# Altium footprint library diploma.PcbLib: 27 footprints (part 2 of 2)
Each footprint in its own frame and in the unit in brackets; x right, y up, seen from the top. Pads: shape width x height; smd on the part's side, far side on the other; paste and mask are expansions set on the pad; w line width, h text height; cw(c..) or ccw(c..) is an arc to the next point about the centre after c.
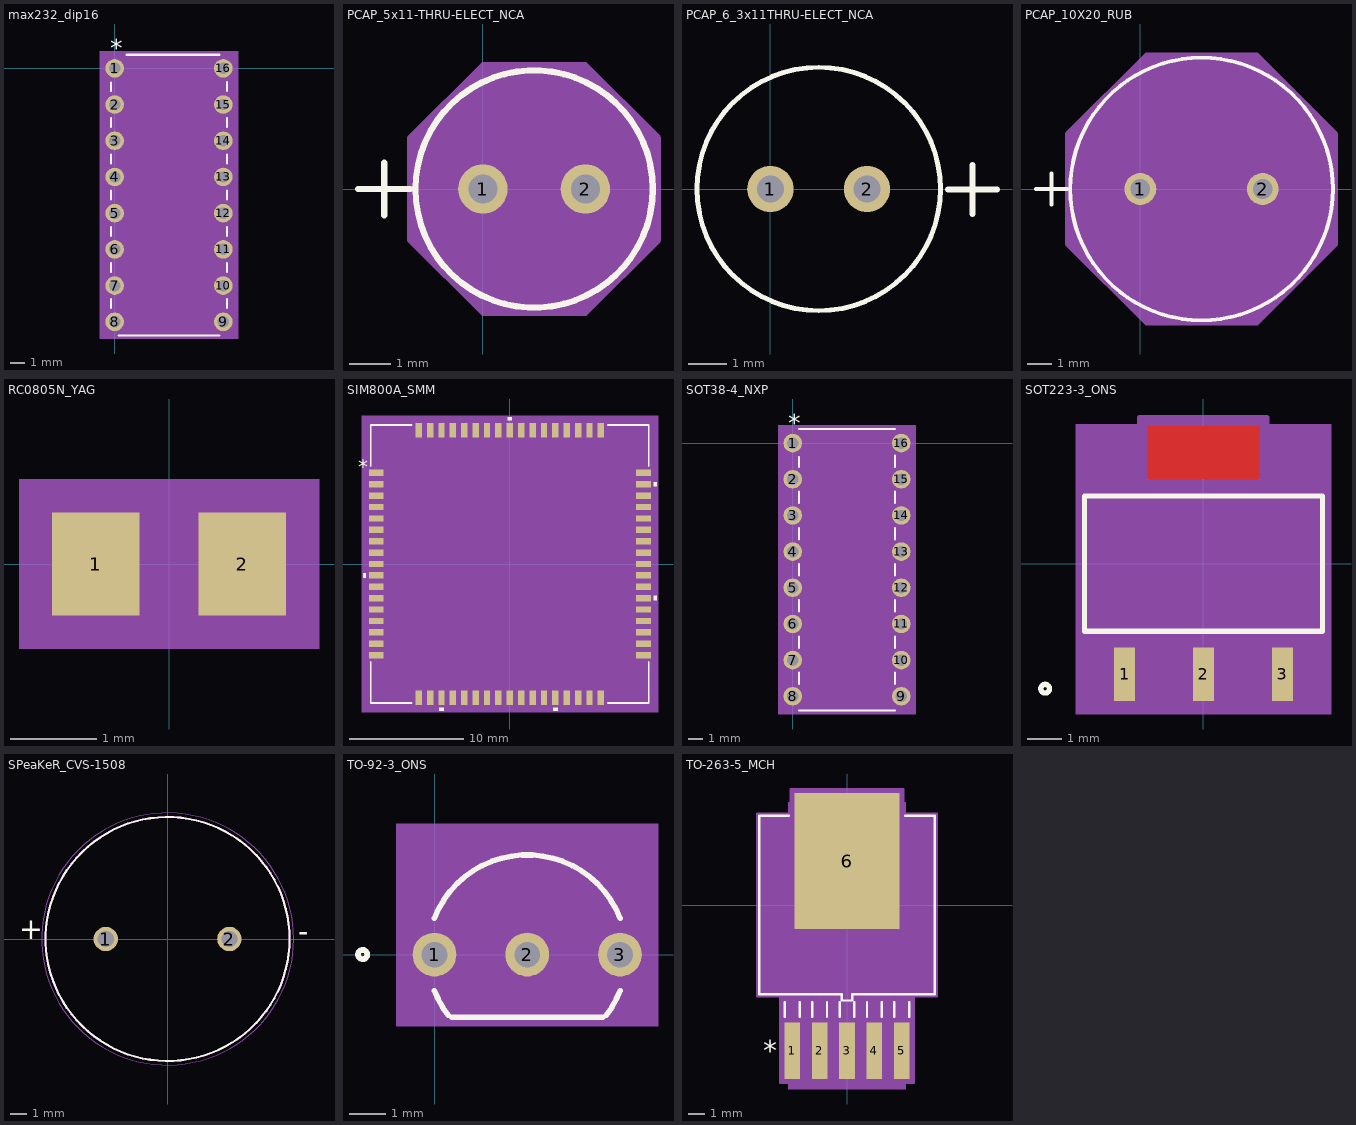
[diagram p1: the footprints below, top view; thin cyan lines are the x and y axes]

## max232_dip16 [mm]
pads (16):
  round 1.3 hole 0.8 mask+0: 1(0,0) 2(0,-2.54) 3(0,-5.08) 4(0,-7.62) 5(0,-10.16) 6(0,-12.7) 7(0,-15.24) 8(0,-17.78) 9(7.62,-17.78) 10(7.62,-15.24) 11(7.62,-12.7) 12(7.62,-10.16) 13(7.62,-7.62) 14(7.62,-5.08) 15(7.62,-2.54) 16(7.62,0)
Top Overlay:
  lines w0.152: -0.254,-16.82 -0.254,-16.2 ; -0.254,-14.28 -0.254,-13.66 ; -0.254,-11.74 -0.254,-11.12 ; -0.254,-9.2 -0.254,-8.58 ; -0.254,-6.66 -0.254,-6.04 ; -0.254,-4.12 -0.254,-3.5 ; -0.254,-1.58 -0.254,-0.993 ; 0.281,-18.732 7.339,-18.732 ; 0.82,0.953 7.339,0.953 ; 7.874,-16.82 7.874,-16.2 ; 7.874,-14.28 7.874,-13.66 ; 7.874,-11.74 7.874,-11.12 ; 7.874,-9.2 7.874,-8.58 ; 7.874,-6.66 7.874,-6.04 ; 7.874,-4.12 7.874,-3.5 ; 7.874,-1.58 7.874,-0.96
  text "*" at -0.318,0.787 h1.27
Mechanical 5:
  region: 8.661,-18.986 -1.041,-18.986 -1.041,1.206 8.661,1.206
Mechanical 13:
  lines w0: 3.505,0.826 ccw(c3.81,0.826) 4.115,0.826
  lines w0.025: -0.406,-18.186 -0.406,-17.374 -0.127,-17.374 -0.127,-18.186 -0.406,-18.186 ; -0.406,-15.646 -0.406,-14.834 -0.127,-14.834 -0.127,-15.646 -0.406,-15.646 ; -0.406,-13.106 -0.406,-12.294 -0.127,-12.294 -0.127,-13.106 -0.406,-13.106 ; -0.406,-10.566 -0.406,-9.754 -0.127,-9.754 -0.127,-10.566 -0.406,-10.566 ; -0.406,-8.026 -0.406,-7.214 -0.127,-7.214 -0.127,-8.026 -0.406,-8.026 ; -0.406,-5.486 -0.406,-4.674 -0.127,-4.674 -0.127,-5.486 -0.406,-5.486 ; -0.406,-2.946 -0.406,-2.134 -0.127,-2.134 -0.127,-2.946 -0.406,-2.946 ; -0.406,-0.406 -0.406,0.406 -0.127,0.406 -0.127,-0.406 -0.406,-0.406 ; -0.127,-18.605 7.747,-18.605 7.747,0.826 -0.127,0.826 -0.127,-18.605 ; 7.747,-18.186 7.747,-17.374 8.026,-17.374 8.026,-18.186 7.747,-18.186 ; 7.747,-15.646 7.747,-14.834 8.026,-14.834 8.026,-15.646 7.747,-15.646 ; 7.747,-13.106 7.747,-12.294 8.026,-12.294 8.026,-13.106 7.747,-13.106 ; 7.747,-10.566 7.747,-9.754 8.026,-9.754 8.026,-10.566 7.747,-10.566 ; 7.747,-8.026 7.747,-7.214 8.026,-7.214 8.026,-8.026 7.747,-8.026 ; 7.747,-5.486 7.747,-4.674 8.026,-4.674 8.026,-5.486 7.747,-5.486 ; 7.747,-2.946 7.747,-2.134 8.026,-2.134 8.026,-2.946 7.747,-2.946 ; 7.747,-0.406 7.747,0.406 8.026,0.406 8.026,-0.406 7.747,-0.406
  text "*" at -0.191,-0.635 h1.27
Mechanical 15:
  region: 8.001,-18.694 8.534,-18.694 8.534,0.914 8.001,0.914 8.001,1.079 -0.381,1.079 -0.381,0.914 -0.914,0.914 -0.914,-18.694 -0.381,-18.694 -0.381,-18.86 8.001,-18.86
  lines w0.152: -0.914,-18.694 -0.914,0.914 -0.381,0.914 -0.381,1.079 8.001,1.079 8.001,0.914 8.534,0.914 8.534,-18.694 8.001,-18.694 8.001,-18.86 -0.381,-18.86 -0.381,-18.694 -0.914,-18.694
3D body "max232_dip16.step": height 4.7, standoff -2.54, extent -0.127,-18.606 7.864,0.826
3D body: height 0.25, standoff 0, extent 0,0 0.254,0.254

## PCAP_5x11-THRU-ELECT_NCA [mm]
pads (2):
  round 1.2 hole 0.7 mask+0: 1(0,0) 2(2.489,0)
Top Overlay:
  circle w0.152: c1.245,0 r2.883
  lines w0.152: -3.035,0 -1.765,0 ; -2.4,-0.635 -2.4,0.635
Mechanical 13:
  circle w0: c1.245,0 r2.756
  lines w0.025: -3.035,0 -1.765,0 ; -2.4,-0.635 -2.4,0.635
Mechanical 15:
  region: -1.765,1.239 0.005,3.01 2.484,3.01 4.255,1.239 4.255,-1.239 2.484,-3.01 0.005,-3.01 -1.765,-1.239
  lines w0.152: -1.765,-1.239 -1.765,1.239 0.005,3.01 2.484,3.01 4.255,1.239 4.255,-1.239 2.484,-3.01 0.005,-3.01 -1.765,-1.239
3D body: height 0.25, standoff 0, extent 0,0 0.254,0.254
3D body "PCAP_5x11.step": height 12.26, standoff -4.67, extent -1.511,-2.75 4.011,2.762

## PCAP_6_3x11THRU-ELECT_NCA [mm]
pads (2):
  round 1.2 hole 0.7: 1(0,0) 2(2.5,0)
Top Overlay:
  circle w0.127: c1.25,0 r3.15
  lines w0.152: 4.593,-0.01 5.863,-0.01 ; 5.228,-0.645 5.228,0.625
Mechanical 13:
  lines w0.025: 4.593,-0.01 5.863,-0.01 ; 5.228,-0.645 5.228,0.625
3D body: height 0.25, standoff 0, extent 0,0 0.254,0.254
3D body "UVR2E2R2MED.STEP": height 12.5, standoff -19, extent -1.875,-3.122 4.425,3.173

## PCAP_10X20_RUB [mm]
pads (2):
  round 1.3 hole 0.8 mask+0: 1(0,0) 2(5,0)
Top Overlay:
  circle w0.152: c2.5,0 r5.372
  lines w0.152: -4.269,0 -2.999,0 ; -3.634,-0.635 -3.634,0.635
Mechanical 13:
  circle w0: c2.5,0 r5.245
  lines w0.025: -4.269,0 -2.999,0 ; -3.634,-0.635 -3.634,0.635
Mechanical 15:
  region: -2.999,2.264 0.236,5.499 4.764,5.499 7.999,2.264 7.999,-2.264 4.764,-5.499 0.236,-5.499 -2.999,-2.264
  lines w0.152: -2.999,-2.264 -2.999,2.264 0.236,5.499 4.764,5.499 7.999,2.264 7.999,-2.264 4.764,-5.499 0.236,-5.499 -2.999,-2.264
3D body: height 0.25, standoff 0, extent 0,0 0.254,0.254
3D body "PCAP_10x20.step": height 22.01, standoff -4.37, extent -2.749,-5.245 7.745,5.245

## RC0805N_YAG [mil]
pads (2):
  rect 39.78x47 smd paste+0 mask+0: 1(-33.39,0) 2(33.39,0)
Mechanical 5:
  region: 68.28,-38.5 -68.28,-38.5 -68.28,38.5 68.28,38.5
Mechanical 13:
  lines w1: -39.5,-23.5 -39.5,23.5 ; -39.5,-23.5 -13.5,-23.5 -13.5,23.5 -39.5,23.5 ; -39.5,-23.5 39.5,-23.5 ; -39.5,-23.5 -39.5,23.5 ; -39.5,23.5 39.5,23.5 ; 39.5,-23.5 13.5,-23.5 13.5,23.5 39.5,23.5 ; 39.5,-23.5 39.5,23.5 ; 39.5,-23.5 39.5,23.5
Mechanical 15:
  region: 63.28,-33.5 -63.28,-33.5 -63.28,33.5 63.28,33.5
  lines w6: -63.28,-33.5 -63.28,33.5 63.28,33.5 63.28,-33.5 -63.28,-33.5
3D body "RC0805N_YAG.step": height 27.99, standoff 0, extent -39.48,-23.5 39.5,23.51
3D body: height 10, standoff 0, extent 0,0 10,10

## SIM800A_SMM [mm]
pads (68):
  rect 1.291x0.56 smd paste+0 mask+0: 1(-11.732,8) 2(-11.732,7) 3(-11.732,6) 4(-11.732,5) 5(-11.732,4) 6(-11.732,3) 7(-11.732,2) 8(-11.732,1) 9(-11.732,0) 10(-11.732,-1) 11(-11.732,-2) 12(-11.732,-3) 13(-11.732,-4) 14(-11.732,-5) 15(-11.732,-6) 16(-11.732,-7) 17(-11.732,-8) 35(11.732,-8) 36(11.732,-7) 37(11.732,-6) 38(11.732,-5) 39(11.732,-4) 40(11.732,-3) 41(11.732,-2) 42(11.732,-1) 43(11.732,0) 44(11.732,1) 45(11.732,2) 46(11.732,3) 47(11.732,4) 48(11.732,5) 49(11.732,6) 50(11.732,7) 51(11.732,8)
  rect 0.56x1.291 smd paste+0 mask+0: 18(-8,-11.732) 19(-7,-11.732) 20(-6,-11.732) 21(-5,-11.732) 22(-4,-11.732) 23(-3,-11.732) 24(-2,-11.732) 25(-1,-11.732) 26(0,-11.732) 27(1,-11.732) 28(2,-11.732) 29(3,-11.732) 30(4,-11.732) 31(5,-11.732) 32(6,-11.732) 33(7,-11.732) 34(8,-11.732) 52(8,11.732) 53(7,11.732) 54(6,11.732) 55(5,11.732) 56(4,11.732) 57(3,11.732) 58(2,11.732) 59(1,11.732) 60(0,11.732) 61(-1,11.732) 62(-2,11.732) 63(-3,11.732) 64(-4,11.732) 65(-5,11.732) 66(-6,11.732) 67(-7,11.732) 68(-8,11.732)
Top Overlay:
  region: 0.191,12.632 -0.191,12.632 -0.191,12.886 0.191,12.886
  region: 12.632,7.191 12.886,7.191 12.886,6.81 12.632,6.81
  region: 12.632,-2.809 12.886,-2.809 12.886,-3.19 12.632,-3.19
  region: 4.19,-12.632 3.809,-12.632 3.809,-12.886 4.19,-12.886
  region: -5.81,-12.632 -6.191,-12.632 -6.191,-12.886 -5.81,-12.886
  region: -12.632,-0.81 -12.886,-0.81 -12.886,-1.191 -12.632,-1.191
  lines w0.152: -12.205,-8.613 -12.205,-12.205 -8.613,-12.205 ; -12.205,8.613 -12.205,12.205 -8.613,12.205 ; 8.613,-12.205 12.205,-12.205 12.205,-8.613 ; 8.613,12.205 12.205,12.205 12.205,8.613
  text "*" at -13.33,7.865 h1.27
Mechanical 5:
  region: 13.013,-13.013 -13.013,-13.013 -13.013,13.013 13.013,13.013
Mechanical 13:
  lines w0.025: -12.078,10.808 -10.808,12.078 ; -12.078,-12.078 -12.078,12.078 12.078,12.078 12.078,-12.078 -12.078,-12.078 ; -12.078,-8.305 -12.078,-7.695 -12.078,-8.305 ; -12.078,-7.305 -12.078,-6.695 -12.078,-7.305 ; -12.078,-6.305 -12.078,-5.695 -12.078,-6.305 ; -12.078,-5.305 -12.078,-4.695 -12.078,-5.305 ; -12.078,-4.305 -12.078,-3.695 -12.078,-4.305 ; -12.078,-3.305 -12.078,-2.695 -12.078,-3.305 ; -12.078,-2.305 -12.078,-1.695 -12.078,-2.305 ; -12.078,-1.305 -12.078,-0.695 -12.078,-1.305 ; -12.078,-0.305 -12.078,0.305 -12.078,-0.305 ; -12.078,0.695 -12.078,1.305 -12.078,0.695 ; -12.078,1.695 -12.078,2.305 -12.078,1.695 ; -12.078,2.695 -12.078,3.305 -12.078,2.695 ; -12.078,3.695 -12.078,4.305 -12.078,3.695 ; -12.078,4.695 -12.078,5.305 -12.078,4.695 ; -12.078,5.695 -12.078,6.305 -12.078,5.695 ; -12.078,6.695 -12.078,7.305 -12.078,6.695 ; -12.078,7.695 -12.078,8.305 -12.078,7.695 ; -8.305,-12.078 -7.695,-12.078 -8.305,-12.078 ; -8.305,12.078 -7.695,12.078 -8.305,12.078 ; -7.305,-12.078 -6.695,-12.078 -7.305,-12.078 ; -7.305,12.078 -6.695,12.078 -7.305,12.078 ; -6.305,-12.078 -5.695,-12.078 -6.305,-12.078 ; -6.305,12.078 -5.695,12.078 -6.305,12.078 ; -5.305,-12.078 -4.695,-12.078 -5.305,-12.078 ; -5.305,12.078 -4.695,12.078 -5.305,12.078 ; -4.305,-12.078 -3.695,-12.078 -4.305,-12.078 ; -4.305,12.078 -3.695,12.078 -4.305,12.078 ; -3.305,-12.078 -2.695,-12.078 -3.305,-12.078 ; -3.305,12.078 -2.695,12.078 -3.305,12.078 ; -2.305,-12.078 -1.695,-12.078 -2.305,-12.078 ; -2.305,12.078 -1.695,12.078 -2.305,12.078 ; -1.305,-12.078 -0.695,-12.078 -1.305,-12.078 ; -1.305,12.078 -0.695,12.078 -1.305,12.078 ; -0.305,-12.078 0.305,-12.078 -0.305,-12.078 ; -0.305,12.078 0.305,12.078 -0.305,12.078 ; 0.695,-12.078 1.305,-12.078 0.695,-12.078 ; 0.695,12.078 1.305,12.078 0.695,12.078 ; 1.695,-12.078 2.305,-12.078 1.695,-12.078 ; 1.695,12.078 2.305,12.078 1.695,12.078 ; 2.695,-12.078 3.305,-12.078 2.695,-12.078 ; 2.695,12.078 3.305,12.078 2.695,12.078 ; 3.695,-12.078 4.305,-12.078 3.695,-12.078 ; 3.695,12.078 4.305,12.078 3.695,12.078 ; 4.695,-12.078 5.305,-12.078 4.695,-12.078 ; 4.695,12.078 5.305,12.078 4.695,12.078 ; 5.695,-12.078 6.305,-12.078 5.695,-12.078 ; 5.695,12.078 6.305,12.078 5.695,12.078 ; 6.695,-12.078 7.305,-12.078 6.695,-12.078 ; 6.695,12.078 7.305,12.078 6.695,12.078 ; 7.695,-12.078 8.305,-12.078 7.695,-12.078 ; 7.695,12.078 8.305,12.078 7.695,12.078 ; 12.078,-8.305 12.078,-7.695 12.078,-8.305 ; 12.078,-7.305 12.078,-6.695 12.078,-7.305 ; 12.078,-6.305 12.078,-5.695 12.078,-6.305 ; 12.078,-5.305 12.078,-4.695 12.078,-5.305 ; 12.078,-4.305 12.078,-3.695 12.078,-4.305 ; 12.078,-3.305 12.078,-2.695 12.078,-3.305 ; 12.078,-2.305 12.078,-1.695 12.078,-2.305 ; 12.078,-1.305 12.078,-0.695 12.078,-1.305 ; 12.078,-0.305 12.078,0.305 12.078,-0.305 ; 12.078,0.695 12.078,1.305 12.078,0.695 ; 12.078,1.695 12.078,2.305 12.078,1.695 ; 12.078,2.695 12.078,3.305 12.078,2.695 ; 12.078,3.695 12.078,4.305 12.078,3.695 ; 12.078,4.695 12.078,5.305 12.078,4.695 ; 12.078,5.695 12.078,6.305 12.078,5.695 ; 12.078,6.695 12.078,7.305 12.078,6.695 ; 12.078,7.695 12.078,8.305 12.078,7.695
  text "*" at -11.405,7.865 h1.27
Mechanical 15:
  region: -8.534,-12.332 -12.332,-12.332 -12.332,-8.534 -12.632,-8.534 -12.632,8.534 -12.332,8.534 -12.332,12.332 -8.534,12.332 -8.534,12.632 8.534,12.632 8.534,12.332 12.332,12.332 12.332,8.534 12.632,8.534 12.632,-8.534 12.332,-8.534 12.332,-12.332 8.534,-12.332 8.534,-12.632 -8.534,-12.632
  lines w0.152: -12.632,-8.534 -12.632,8.534 -12.332,8.534 -12.332,12.332 -8.534,12.332 -8.534,12.632 8.534,12.632 8.534,12.332 12.332,12.332 12.332,8.534 12.632,8.534 12.632,-8.534 12.332,-8.534 12.332,-12.332 8.534,-12.332 8.534,-12.632 -8.534,-12.632 -8.534,-12.332 -12.332,-12.332 -12.332,-8.534 -12.632,-8.534
3D body "SIM800A_SMM.step": height 3.15, standoff 0, extent -12.078,-12.078 12.078,12.078
3D body: height 0.25, standoff 0, extent 0,0 0.254,0.254

## SOT38-4_NXP [mm]
pads (16):
  round 1.3 hole 0.8 mask+0: 1(0,0) 2(0,-2.54) 3(0,-5.08) 4(0,-7.62) 5(0,-10.16) 6(0,-12.7) 7(0,-15.24) 8(0,-17.78) 9(7.62,-17.78) 10(7.62,-15.24) 11(7.62,-12.7) 12(7.62,-10.16) 13(7.62,-7.62) 14(7.62,-5.08) 15(7.62,-2.54) 16(7.62,0)
Top Overlay:
  lines w0.152: 0.445,-18.771 7.175,-18.771 ; 0.445,-16.906 0.445,-16.114 ; 0.445,-14.366 0.445,-13.574 ; 0.445,-11.826 0.445,-11.034 ; 0.445,-9.286 0.445,-8.494 ; 0.445,-6.746 0.445,-5.954 ; 0.445,-4.206 0.445,-3.414 ; 0.445,-1.666 0.445,-0.98 ; 0.445,0.991 7.175,0.991 ; 7.175,-16.906 7.175,-16.114 ; 7.175,-14.366 7.175,-13.574 ; 7.175,-11.826 7.175,-11.034 ; 7.175,-9.286 7.175,-8.494 ; 7.175,-6.746 7.175,-5.954 ; 7.175,-4.206 7.175,-3.414 ; 7.175,-1.666 7.175,-0.874
  text "*" at -0.318,0.775 h1.27
Mechanical 5:
  region: 8.649,-19.025 -1.029,-19.025 -1.029,1.245 8.649,1.245
Mechanical 13:
  lines w0: 3.505,0.864 ccw(c3.81,0.864) 4.115,0.864
  lines w0.025: -0.394,-18.174 -0.394,-17.386 0.572,-17.386 0.572,-18.174 -0.394,-18.174 ; -0.394,-15.634 -0.394,-14.846 0.572,-14.846 0.572,-15.634 -0.394,-15.634 ; -0.394,-13.094 -0.394,-12.306 0.572,-12.306 0.572,-13.094 -0.394,-13.094 ; -0.394,-10.554 -0.394,-9.766 0.572,-9.766 0.572,-10.554 -0.394,-10.554 ; -0.394,-8.014 -0.394,-7.226 0.572,-7.226 0.572,-8.014 -0.394,-8.014 ; -0.394,-5.474 -0.394,-4.686 0.572,-4.686 0.572,-5.474 -0.394,-5.474 ; -0.394,-2.934 -0.394,-2.146 0.572,-2.146 0.572,-2.934 -0.394,-2.934 ; -0.394,-0.394 -0.394,0.394 0.572,0.394 0.572,-0.394 -0.394,-0.394 ; 0.572,-18.644 7.048,-18.644 7.048,0.864 0.572,0.864 0.572,-18.644 ; 7.048,-18.174 7.048,-17.386 8.014,-17.386 8.014,-18.174 7.048,-18.174 ; 7.048,-15.634 7.048,-14.846 8.014,-14.846 8.014,-15.634 7.048,-15.634 ; 7.048,-13.094 7.048,-12.306 8.014,-12.306 8.014,-13.094 7.048,-13.094 ; 7.048,-10.554 7.048,-9.766 8.014,-9.766 8.014,-10.554 7.048,-10.554 ; 7.048,-8.014 7.048,-7.226 8.014,-7.226 8.014,-8.014 7.048,-8.014 ; 7.048,-5.474 7.048,-4.686 8.014,-4.686 8.014,-5.474 7.048,-5.474 ; 7.048,-2.934 7.048,-2.146 8.014,-2.146 8.014,-2.934 7.048,-2.934 ; 7.048,-0.394 7.048,0.394 8.014,0.394 8.014,-0.394 7.048,-0.394
  text "*" at 0.508,-0.635 h1.27
Mechanical 15:
  region: 7.302,-18.682 8.522,-18.682 8.522,0.902 7.302,0.902 7.302,1.118 0.318,1.118 0.318,0.902 -0.902,0.902 -0.902,-18.682 0.318,-18.682 0.318,-18.898 7.302,-18.898
  lines w0.152: -0.902,-18.682 -0.902,0.902 0.318,0.902 0.318,1.118 7.302,1.118 7.302,0.902 8.522,0.902 8.522,-18.682 7.302,-18.682 7.302,-18.898 0.318,-18.898 0.318,-18.682 -0.902,-18.682
3D body "PCF8574AP_SOT38-4_NXP.step": height 4.32, standoff -2.54, extent -0.254,-18.644 7.874,0.864
3D body: height 0.25, standoff 0, extent 0,0 0.254,0.254

## SOT223-3_ONS [mil]
pads (3):
  rect 24x61 smd paste+0 mask+0: 1(-90.5,-127) 2(0,-127) 3(90.5,-127)
Top Layer:
  region: 64,96.5 64,157.5 -64,157.5 -64,96.5
Top Overlay:
  circle w6: c-181.5,-143.5 r5
  lines w6: -136.5,-77.5 -136.5,77.5 136.5,77.5 136.5,-77.5 -136.5,-77.5
Top Paste:
  region: 64,96.5 64,157.5 -64,157.5 -64,96.5
Top Solder:
  region: 65,82.5 65,171.5 -65,171.5 -65,82.5
Mechanical 5:
  region: -146.5,159.5 146.5,159.5 146.5,-172.5 -146.5,-172.5
Mechanical 13:
  circle w0: c-121.5,-62.5 r5
  lines w1: -131.5,-72.5 -131.5,72.5 131.5,72.5 131.5,-72.5 -131.5,-72.5 ; -101.5,-143.5 -79.5,-143.5 -79.5,-72.5 -101.5,-72.5 -101.5,-143.5 ; -63,72.5 -63,143.5 63,143.5 63,72.5 -63,72.5 ; -11,-143.5 11,-143.5 11,-72.5 -11,-72.5 -11,-143.5 ; 79.5,-143.5 101.5,-143.5 101.5,-72.5 79.5,-72.5 79.5,-143.5
Mechanical 15:
  region: -141.5,-82.5 -141.5,82.5 -73,82.5 -73,167.5 73,167.5 73,82.5 141.5,82.5 141.5,-82.5 111.5,-82.5 111.5,-167.5 -111.5,-167.5 -111.5,-82.5
  lines w6: -141.5,-82.5 -111.5,-82.5 -111.5,-167.5 111.5,-167.5 111.5,-82.5 141.5,-82.5 141.5,82.5 73,82.5 73,167.5 -73,167.5 -73,82.5 -141.5,82.5 -141.5,-82.5
3D body "NCP1117ST50T3G_SOT223-3.step": height 68.11, standoff 0, extent -131.49,-148.5 131.5,138.51
3D body: height 10, standoff 0, extent 0,0 10,10

## SPeaKeR_CVS-1508 [mm]
pads (2):
  round 1.5 hole 1: 1(-3.8,0) 2(3.8,0)
Top Overlay:
  circle w0.127: c0,0 r7.5
  text "+" at -9.137,0 h1.27
  text "-" at 8.031,-0.127 h1.27
Mechanical 13:
  circle w0.127: c0,0 r7.5
Mechanical 15:
  circle w0.05: c0,0 r7.75
3D body "cvs-1508.stp": height 7.6, standoff -6.1, extent -7.5,-7.5 7.5,8.5

## TO-92-3_ONS [mm]
pads (3):
  round 1.2 hole 0.7 mask+0: 1(0,0) 2(2.54,0) 3(5.08,0)
Top Overlay:
  circle w0.152: c-1.968,0 r0.127
  lines w0.152: -0.003,-0.993 ccw(c2.54,0) 0.376,-1.665 ; -0.003,0.993 cw(c2.54,0) 5.083,0.993 ; 0.476,-1.714 4.604,-1.714 ; 4.704,-1.665 ccw(c2.54,0) 5.083,-0.993
Mechanical 5:
  region: -1.041,3.581 6.121,3.581 6.121,-1.968 -1.041,-1.968
Mechanical 13:
  circle w0: c0.191,0 r0.127
  lines w0: 0.476,-1.587 cw(c2.54,0) 4.604,-1.587
  lines w0.025: 0.476,-1.587 4.604,-1.587
  lines w0.152: -0.254,0 0.254,0 ; 0,-0.254 0,0.254
Mechanical 15:
  region: 5.994,-1.841 -0.914,-1.841 -0.914,3.454 5.994,3.454
  lines w0.152: -0.914,-1.841 5.994,-1.841 5.994,3.454 -0.914,3.454 -0.914,-1.841
3D body: height 0.25, standoff 0, extent 0,0 0.254,0.254
3D body "TO-92-3_ONS.step": height 5.8, standoff -2.27, extent -0.319,-1.075 5.319,2.609

## TO-263-5_MCH [mil]
pads (6):
  rect 37.97x137.56 smd paste+0 mask+0: 1(-134,-356.5) 2(-67,-356.5) 3(0,-356.5) 4(67,-356.5) 5(134,-356.5)
  rect 258x333 smd paste+0 mask+0: 6(0,108)
Top Overlay:
  lines w6: -152,-273.72 -152,-237.5 ; -142.1,218.5 -215,218.5 -215,-218.5 -12.5,-218.5 -12.5,-233.5 12.5,-233.5 12.5,-218.5 215,-218.5 215,218.5 142.1,218.5 ; -116,-273.72 -116,-237.5 ; -85,-273.72 -85,-237.5 ; -49,-273.72 -49,-237.5 ; -18,-273.72 -18,-237.5 ; 18,-273.72 18,-237.5 ; 49,-273.72 49,-237.5 ; 85,-273.72 85,-237.5 ; 116,-273.72 116,-237.5 ; 152,-273.72 152,-237.5
  text "*" at -205,-381.5 h50
Mechanical 5:
  region: -144,252.5 144,252.5 144,-450.28 -144,-450.28
Mechanical 13:
  lines w1: -210,-213.5 210,-213.5 210,213.5 -210,213.5 -210,-213.5 ; -152,-411.5 -152,-213.5 -116,-213.5 -116,-411.5 -152,-411.5 ; -85,-411.5 -85,-213.5 -49,-213.5 -49,-411.5 -85,-411.5 ; -18,-411.5 -18,-213.5 18,-213.5 18,-411.5 -18,-411.5 ; -7.5,-228.5 -7.5,-213.5 7.5,-213.5 7.5,-228.5 -7.5,-228.5 ; 49,-411.5 49,-213.5 85,-213.5 85,-411.5 49,-411.5 ; 116,-411.5 116,-213.5 152,-213.5 152,-411.5 116,-411.5
  text "*" at -146.5,-228.5 h50
Mechanical 15:
  region: -220,-223.5 -220,223.5 -138,223.5 -138,284.5 138,284.5 138,223.5 220,223.5 220,-223.5 162.98,-223.5 162.98,-435.28 -162.98,-435.28 -162.98,-223.5
  lines w6: -220,-223.5 -220,223.5 -138,223.5 -138,284.5 138,284.5 138,223.5 220,223.5 220,-223.5 162.98,-223.5 162.98,-435.28 -162.98,-435.28 -162.98,-223.5 -220,-223.5
3D body: height 10, standoff 0, extent 0,0 10,10
3D body "MIC29302WT_TO-263-5.step": height 181.1, standoff -2.01, extent -209.99,-411.49 210.01,253.51